# Altium footprint library SJ43617SMTTR.PcbLib: 1 footprints
Each footprint in its own frame and in the unit in brackets; x right, y up, seen from the top. Pads: shape width x height; smd on the part's side, far side on the other; paste and mask are expansions set on the pad; w line width, h text height; cw(c..) or ccw(c..) is an arc to the next point about the centre after c.
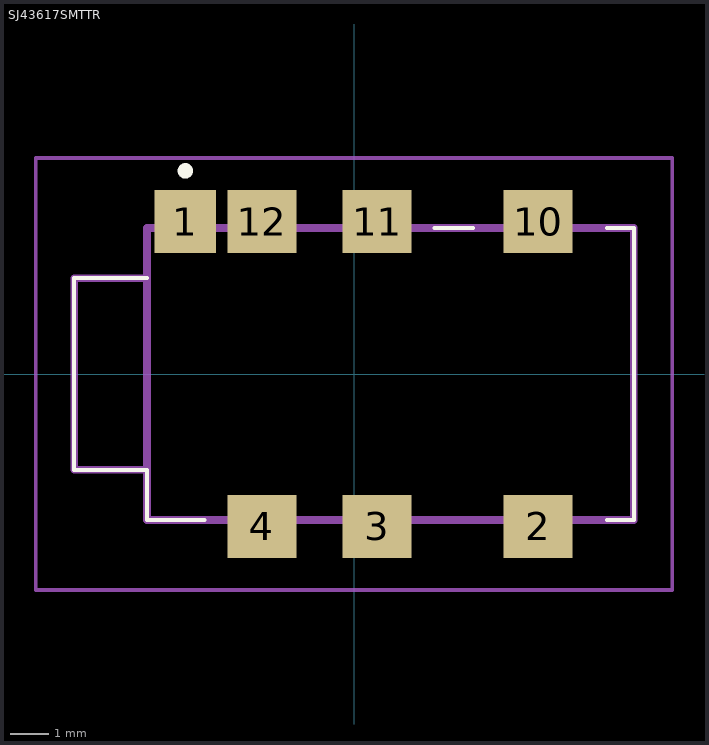
[diagram p0: the footprint, top view; thin cyan lines are the x and y axes]

## SJ43617SMTTR [mm]
pads (7):
  rect 1.6x1.65 smd: 1(-4.4,3.975)
  rect 1.8x1.65 smd: 2(4.8,-3.975) 3(0.6,-3.975) 4(-2.4,-3.975) 10(4.8,3.975) 11(0.6,3.975) 12(-2.4,3.975)
Top Overlay:
  lines w0.1: -5.4,2.5 -7.3,2.5 -7.3,-2.5 -5.4,-2.5 -5.4,-3.81 -3.9,-3.81 ; 2.1,3.81 3.1,3.81 ; 6.6,-3.81 7.3,-3.81 7.3,3.81 6.6,3.81
  lines w0.2: -4.4,5.2 -4.4,5.2 ; -4.4,5.2 ccw(c-4.4,5.3) -4.4,5.4 ; -4.4,5.2 cw(c-4.4,5.3) -4.4,5.4 ; -4.4,5.4 -4.4,5.4
Mechanical 15:
  lines w0.2: -7.3,-2.5 -7.3,2.5 -5.4,2.5 -5.4,-2.5 -7.3,-2.5 ; -5.4,-3.81 7.3,-3.81 7.3,3.81 -5.4,3.81 -5.4,-3.81
Mechanical 20:
  lines w0.1: -8.3,-5.635 8.3,-5.635 8.3,5.635 -8.3,5.635 -8.3,-5.635